# EAGLE library part LNK454/456-458/460 (library power_integrations)
The LinkSwitch-PL family enables a very small and low cost single-stage power factor corrected constant current driver for solid state lighting. Optimized for direct LED current sensing, the LinkSwitch-PL operates over a wide input voltage range delivering an output power of up to 16 W. The LinkSwitch-PL control algorithm provides flicker-free TRIAC dimming with minimal external components. Each device incorporates a 725 V rated power MOSFET, a novel discontinuous mode variable frequency variable on-time controller, frequency jitter, cycle-by-cycle current limit and hysteretic thermal shutdown in a monolithic 4-pin IC, available in SO-8C, eSOP-12, and eDIP-12 packages.
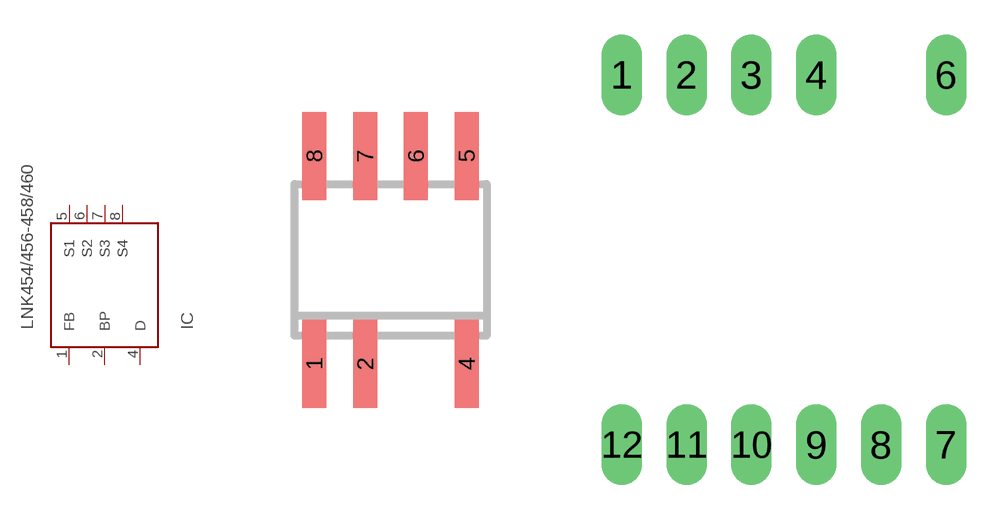
[diagram p18: symbol with the pads of SO8-C(D_PACKAGE); footprints SO8-C(D_PACKAGE), DIP-E-12B(V_PACKAGE)]

Designator prefix IC

## LNK454/456-458/460  [SO8-C(D_PACKAGE)]
1  FB
2  BP
4  D
5  S1
6  S2
7  S3
8  S4

## LNK454/456-458/460DIP-E-12B(V_PACKAGE)  [DIP-E-12B(V_PACKAGE)]
2  FB
3  BP
6  D
7  S1
8  S2
11  S3
12  S4

## LNK454/456-458/460SOP-E-12B  [SOP-E-12B(K_PACKAGE)]
P$2  FB
P$3  BP
P$6  D
P$7  S1
P$8  S2
P$9  S3
P$12  S4

## Footprint SO8-C(D_PACKAGE) (pad centres in mm)
SMALL OUTLINE INTEGRATED CIRCUIT body 3.9 mm/JEDEC MS-012AA
smd 0.6 x 2.2: 1 -1.905,-2.6; 2 -0.635,-2.6; 4 1.905,-2.6; 5 1.905,2.6; 6 0.635,2.6; 7 -0.635,2.6; 8 -1.905,2.6

## Footprint DIP-E-12B(V_PACKAGE) (pad centres in mm)
drill 0.6 pad 1.016 long: 1 -4.45,5.08; 2 -2.67,5.08; 3 -0.89,5.08; 4 0.89,5.08; 6 4.45,5.08; 7 4.45,-5.08; 8 2.67,-5.08; 9 0.89,-5.08; 10 -0.89,-5.08; 11 -2.67,-5.08; 12 -4.45,-5.08

## Footprint SOP-E-12B(K_PACKAGE) (pad centres in mm)
smd 5.51 x 8.15: GND 0,0
smd 1.7 x 0.71: P$1 -5.45,4.45; P$2 -5.45,2.67; P$3 -5.45,0.89; P$4 -5.45,-0.89; P$6 -5.45,-4.45; P$7 5.45,-4.45; P$8 5.45,-2.67; P$9 5.45,-0.89; P$10 5.45,0.89; P$11 5.45,2.67; P$12 5.45,4.45